# EAGLE library part 190-009-263-R001 (library motorFeedback)
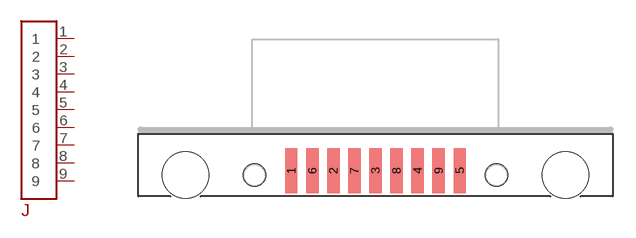
[diagram p22: symbol with the pads of 190; footprint 190]

Designator prefix J

## 190-009-263-R001190  [190]
1  1
2  2
3  3
4  4
5  5
6  6
7  7
8  8
9  9

## Footprint 190 (pad centres in mm)
smd 0.813 x 2.972: 1 -5.537,-0.368; 2 -2.769,-0.368; 3 0,-0.368; 4 2.769,-0.368; 5 5.537,-0.368; 6 -4.153,-0.368; 7 -1.384,-0.368; 8 1.384,-0.368; 9 4.153,-0.368
hole 1.499 at -7.95,-0.66
hole 1.499 at 7.95,-0.66
hole 3.048 at -12.497,-0.66
hole 3.048 at 12.497,-0.66